# Altium footprint library TRANS_EE16.PcbLib: 1 footprints
Each footprint in its own frame and in the unit in brackets; x right, y up, seen from the top. Pads: shape width x height; smd on the part's side, far side on the other; paste and mask are expansions set on the pad; w line width, h text height; cw(c..) or ccw(c..) is an arc to the next point about the centre after c.
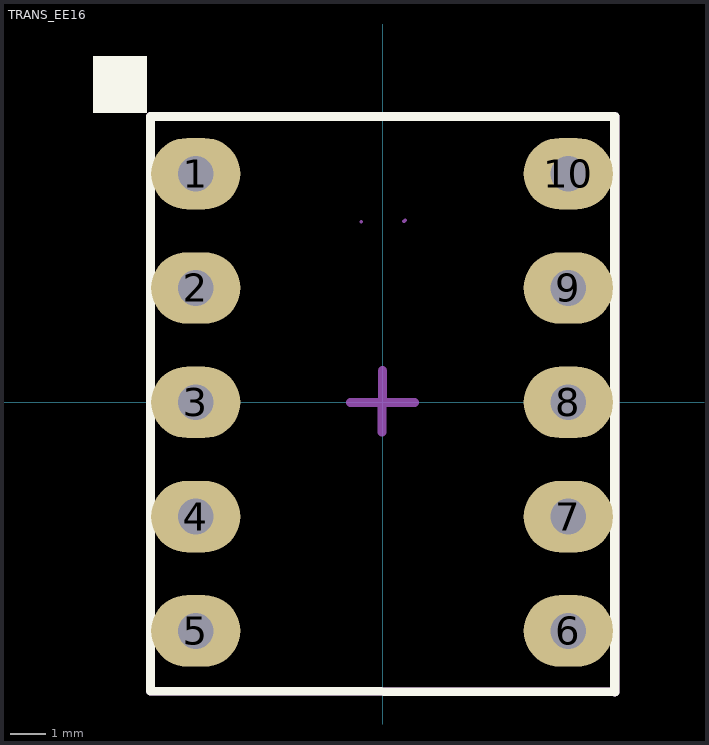
[diagram p0: the footprint, top view; thin cyan lines are the x and y axes]

## TRANS_EE16 [mm]
pads (10):
  oval 2.5x2 hole 1: 1(-5.229,6.4) 2(-5.229,3.2) 3(-5.229,0) 4(-5.229,-3.2) 5(-5.229,-6.4) 6(5.2,-6.4) 7(5.2,-3.2) 8(5.2,0) 9(5.2,3.2) 10(5.2,6.4)
Top Overlay:
  rectangle: -8.1,8.1 -6.6,9.7
  lines w0.254: -6.5,-8.086 -6.5,8 6.5,8 6.5,-8.115 -6.5,-8.086
Top Assembly:
  rectangle: -8.1,8.1 -6.6,9.7
  lines w0.1: 0.6,5.065 0.635,5.1 ; -0.6,5.05 -0.6,5.05
  lines w0.254: -6.5,-8.087 -6.5,8 6.5,8 6.5,-8.116 -6.5,-8.087
  text "'.Designator'" at -0.85,-0.375 h0.7
Top TopCourtyard/BotCourtyard (Mech15):
  lines w0.254: -0.893,0 0,0 ; -0.011,-0.827 -0.011,0.055 ; 0,0.882 0,0 ; 0.893,0 0,0
3D body "User Library-EE16(5+5).STEP": height 15.55, standoff -3, extent -6.475,-8.1 6.45,8.1